# Altium schematic symbol library ERJ-8ENF1503V.SchLib: 1 symbol
Pins are listed as number, name and electrical type; pins without a type are passive.

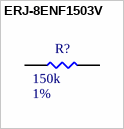
[diagram p0: symbol ERJ-8ENF1503V]

## ERJ-8ENF1503V
designator R?  Tolerance: 1%  Resistance: 150k  (hidden comment: ERJ-8ENF1503V)
RES SMD 150K OHM 1% 1/4W 1206; MFR: Panasonic; Qualifications: AEC-Q200; Footprint: RES1206; PN: ERJ-8ENF1503V; Power Rating: 1/4W; Package: 1206; Supplier 1: Digi-Key; Supplier Part Number 1: P150KFCT-ND
pins: 1, 2